# Altium integrated library JS102011SAQN_SWITCH.IntLib: 1 symbol
Pins are listed as number, name and electrical type; pins without a type are passive.

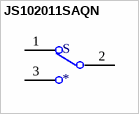
[diagram p0: symbol JS102011SAQN]

## JS102011SAQN
designator S
Slide Switch SPDT Surface Mount, Right Angle; MF: C&K; MP: JS102011SAQN; Availability: Unavailable; Price: None; SnapEDA_Link: https://www.snapeda.com/parts/JS102011SAQN/C%26K/view-part/214325/?ref=snap; Value: *; Package: None
footprint SW_JS102011SAQN
pins: 1, 2, 3